# Altium footprint library 3.5mm HPJ PCB foot.PcbLib: 1 footprints
Each footprint in its own frame and in the unit in brackets; x right, y up, seen from the top. Pads: shape width x height; smd on the part's side, far side on the other; paste and mask are expansions set on the pad; w line width, h text height; cw(c..) or ccw(c..) is an arc to the next point about the centre after c.
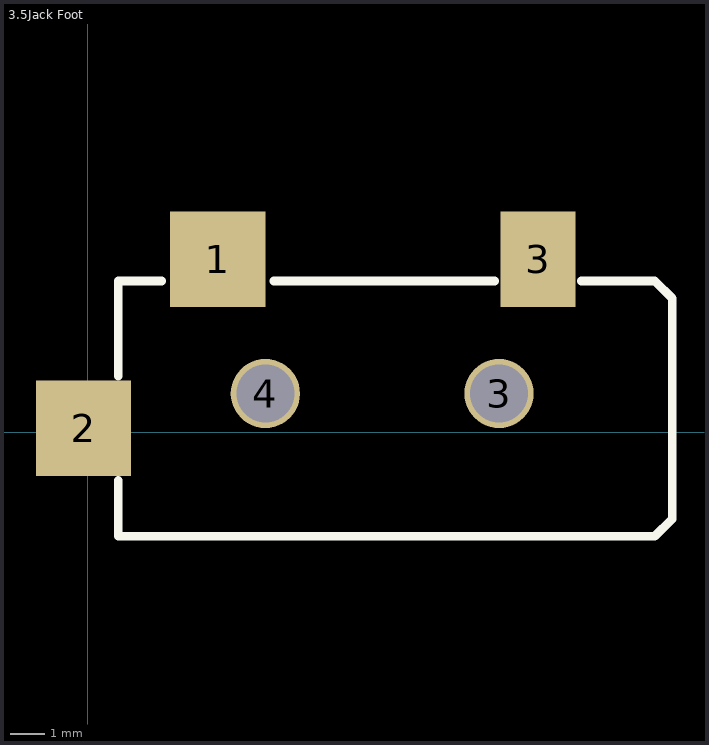
[diagram p0: the footprint, top view; thin cyan lines are the x and y axes]

## 3.5Jack Foot [mil]
pads (5):
  rect 110.24x110.24 smd: 1(150,200) 2(-5,5)
  round 80 hole 66.93: 3(475,45) 4(205,45)
  rect 86.61x110 smd: 3(520,200)
Top Overlay:
  lines w10: 35,-55 35,-120 655,-120 675,-100 675,155 655,175 570,175 ; 35,65 35,175 85,175 ; 215,175 470,175